# Altium footprint library MOLEX_47346-0001.PcbLib: 1 footprints
Each footprint in its own frame and in the unit in brackets; x right, y up, seen from the top. Pads: shape width x height; smd on the part's side, far side on the other; paste and mask are expansions set on the pad; w line width, h text height; cw(c..) or ccw(c..) is an arc to the next point about the centre after c.
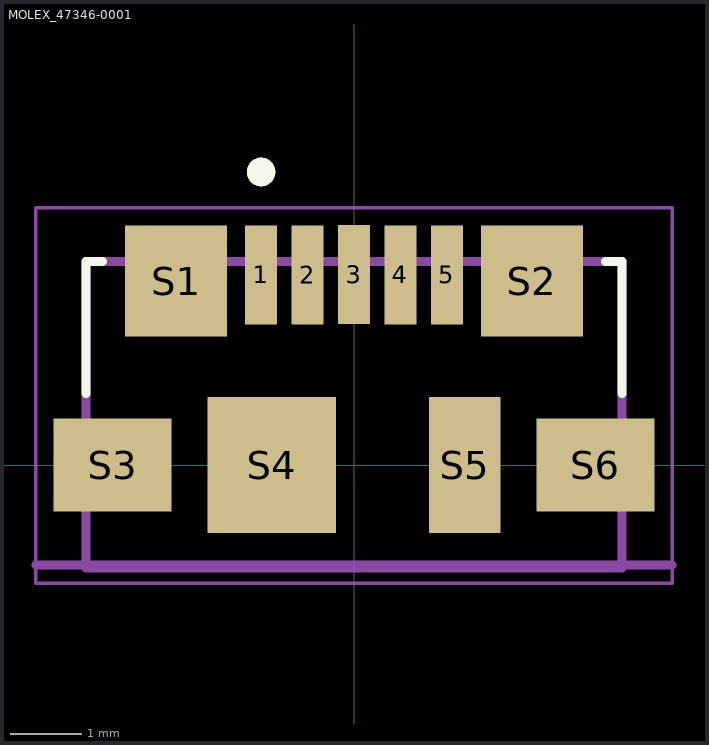
[diagram p0: the footprint, top view; thin cyan lines are the x and y axes]

## MOLEX_47346-0001 [mm]
height 2.94
pads (11):
  rect 0.45x1.38 smd: 1(-1.3,2.66) 2(-0.65,2.66) 3(0,2.667) 4(0.65,2.66) 5(1.3,2.66)
  rect 1.425x1.55 smd: S1(-2.488,2.575) S2(2.488,2.575)
  rect 1.65x1.3 smd: S3(-3.375,0) S6(3.375,0)
  rect 1.8x1.9 smd: S4(-1.15,0)
  rect 1x1.9 smd: S5(1.55,0)
Top Overlay:
  circle w0.2: c-1.3,4.1 r0.1
  lines w0.127: -3.75,1 -3.75,2.85 -3.52,2.85 ; 3.52,2.85 3.75,2.85 3.75,1
Mechanical 13:
  circle w0.2: c-1.3,4.1 r0.1
  lines w0.127: -4.445,-1.397 4.445,-1.397 ; -3.75,-1.438 -3.75,2.85 3.75,2.85 3.75,-1.438 3.749,-1.437 -3.749,-1.437 -3.75,-1.438
  text "PCB EDGE" at 0.508,-2.032 h0.41
Mechanical 15:
  lines w0.05: -4.45,-1.651 4.45,-1.651 4.45,3.6 -4.45,3.6 -4.45,-1.651
3D body "0473460001.stp": height 3.47, standoff 0.53, extent -3.99,-2.018 3.99,3.412